# Altium schematic symbol library myLib.SchLib: 48 symbols
Pins are listed as number, name and electrical type; pins without a type are passive.

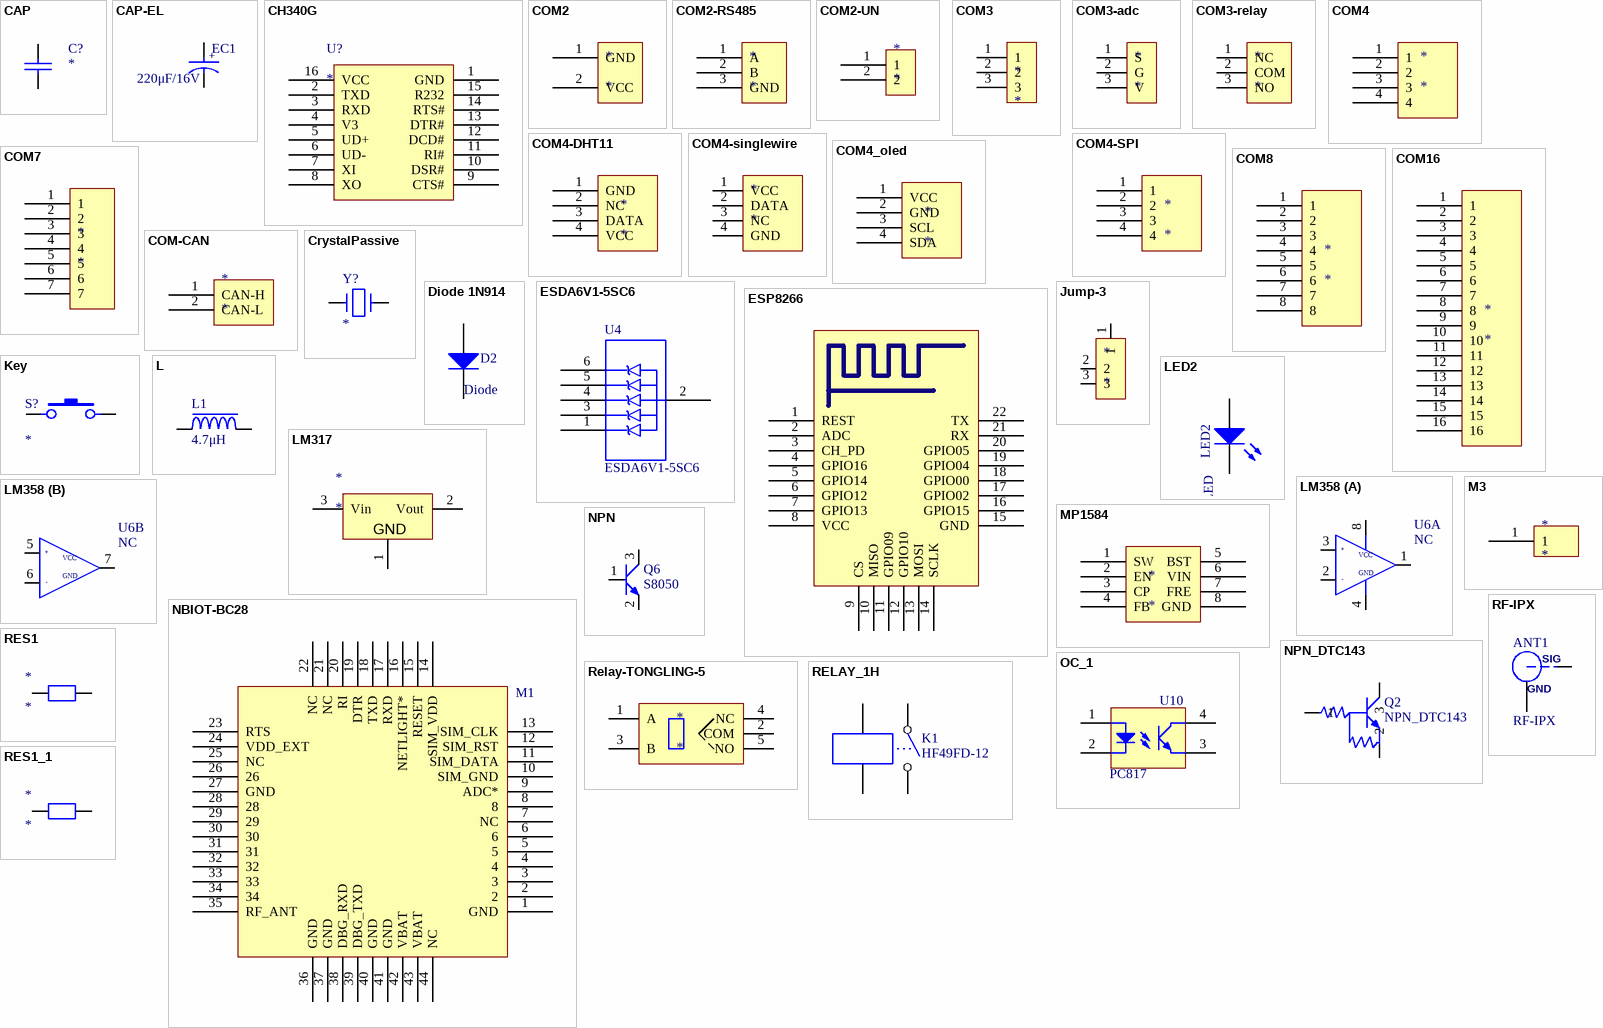
[diagram p0: symbols CAP to RF-IPX]

## CAP
designator C?
Capacitor
footprint 0603C
footprint 0805C
footprint 1206C
footprint 1210C
footprint 0201C
footprint 0402C
pins: 1, 2

## CAP-EL
designator EC1, comment 220μF/16V
footprint RB_6.3/7.7
pins: 1, 2
text: +

## CH340G
designator U?
footprint SOP16
footprint DIP16
pins: 1 GND, 2 TXD, 3 RXD, 4 V3, 5 UD+, 6 UD-, 7 XI, 8 XO, 9 CTS#, 10 DSR#, 11 RI#, 12 DCD#, 13 DTR#, 14 RTS#, 15 R232, 16 VCC

## COM2
designator *
pins: 1 GND, 2 VCC

## COM2-RS485
designator *
pins: 1 A, 2 B, 3 GND

## COM2-UN
designator *
pins: 1, 2

## COM3
designator *
pins: 1, 2, 3

## COM3-adc
designator *
pins: 1 S, 2 G, 3 V

## COM3-relay
designator *
pins: 1 NC, 2 COM, 3 NO

## COM4
designator *
pins: 1, 2, 3, 4

## COM4-DHT11
designator *
pins: 1 GND, 2 NC, 3 DATA, 4 VCC

## COM4-singlewire
designator *
pins: 1 VCC, 2 DATA, 3 NC, 4 GND

## COM4-SPI
designator *
pins: 1, 2, 3, 4

## COM4_oled
designator *
pins: 1 VCC, 2 GND, 3 SCL, 4 SDA

## COM7
designator *
pins: 1, 2, 3, 4, 5, 6, 7

## COM8
designator *
pins: 1, 2, 3, 4, 5, 6, 7, 8

## COM16
designator *
pins: 1, 2, 3, 4, 5, 6, 7, 8, 9, 10, 11, 12, 13, 14, 15, 16

## COM-CAN
designator *
pins: 1 CAN-H, 2 CAN-L

## CrystalPassive
designator Y?
footprint XTAL_DIP
footprint XTAL_PASTE
footprint XTAL_ROUND
footprint YYC-3215
footprint YYC-5032
pins: 1, 2

## Diode 1N914
designator D2, comment Diode
High Conductance Fast Diode; Published: 8-Jun-2000; LatestRevisionDate: 17-Jul-2002; LatestRevisionNote: Re-released for DXP Platform.; DatasheetVersion: 1997; PackageReference: DO-35; Publisher: Altium Limited; PackageDescription: Diode, Axial; Body 3.8 x 1.9 mm (LxDia. max), Lead Dia. 0.53 mm (max); Code_JEDEC: DO-204-AH; ComponentLink1Description: Manufacturer Link; ComponentLink1URL: http://www.fairchildsemi.com/; ComponentLink2Description: Datasheet; ComponentLink2URL: http://www.fairchildsemi.com/ds/1N%2F1N4448.pdf
footprint DO-35 (Diode, Axial; Body 3.8 x 1.9 mm (LxDia. max), Lead Dia. 0.53 mm (max))
simulation model 1N914 (DIODE)
signal-integrity model 1N914
pins: 1 A, 2 K

## ESDA6V1-5SC6
designator U4
footprint TSOT23-6
pins: 1, 2 6, 3, 4, 5, 6

## ESP8266
designator 控制单元  (value not drawn)
pins: 1 REST, 2 ADC, 3 CH_PD, 4 GPIO16, 5 GPIO14, 6 GPIO12, 7 GPIO13, 8 VCC, 9 CS, 10 MISO, 11 GPIO09, 12 GPIO10, 13 MOSI, 14 SCLK, 15 GND, 16 GPIO15, 17 GPIO02, 18 GPIO00, 19 GPIO04, 20 GPIO05, 21 RX, 22 TX

## Jump-3
designator *
pins: 1, 2, 3

## Key
designator S?
footprint KEY_PIECE
footprint KEY_DIP
footprint KEY_PASTE
footprint KEY/6x3x5
pins: 1, 2

## L
designator L1, comment 4.7μH
footprint LGA/7x7x5 (电感)
footprint LGA/.1.2 (间距100mil 直径200mil)
footprint LGA/.2.4
footprint LGA/12X12X10
pins: 1, 2

## LED2
designator LED2, comment LED
Typical RED, GREEN, YELLOW, AMBER GaAs LED; Published: 8-Jun-2000; LatestRevisionDate: 17-Jul-2002; LatestRevisionNote: Re-released for DXP Platform.; PackageVersion: Feb-2002; PackageReference: 3.2X1.6X1.1; Publisher: Altium Limited; PackageDescription: SM LED; 2 Flat Leads
footprint 3.2X1.6X1.1 (SMT LED; 2 Flat Leads)
simulation model LED2 (Diode)
pins: 1 A, 2 K

## LM317
designator *
footprint TO252
footprint TO263-3
footprint SOT-223
pins: 1 ADJ, 2 Vout, 3 Vin
text: GND

## LM358
designator U6, comment NC
footprint DIP8
footprint SOP8
part A pins: 1, 2, 3, 4, 8
part B pins: 5, 6, 7
part A text: ＋; VCC; GND; －
part B text: ＋; VCC; GND; －

## M3
designator *
pins: 1

## MP1584
designator *
pins: 1 SW, 2 EN, 3 CP, 4 FB, 5 BST, 6 VIN, 7 FRE, 8 GND

## NBIOT-BC28
designator M1  (value not drawn)
BC28
footprint NB-IOT-BC28
pins: 1 GND, 2, 3, 4, 5, 6, 7 NC, 8, 9 ADC*, 10 SIM_GND, 11 SIM_DATA, 12 SIM_RST, 13 SIM_CLK, 14 SIM_VDD, 15 RESET, 16 NETLIGHT*, 17 RXD, 18 TXD, 19 DTR, 20 RI, 21 NC, 22 NC, 23 RTS, 24 VDD_EXT, 25 NC, 26, 27 GND, 28, 29, 30, 31, 32, 33, 34, 35 RF_ANT, 36 GND, 37 GND, 38 DBG_RXD, 39 DBG_TXD, 40 GND, 41 GND, 42 VBAT, 43 VBAT, 44 NC

## NPN
designator Q6, comment S8050
NPN Transistor
footprint SOT23
footprint TO3
footprint TO92
footprint TO126
footprint TO220
footprint TO220_H
footprint TO252
pins: 1, 2, 3

## NPN_DTC143
designator Q2
footprint SOT-523
pins: 1, 2, 3

## OC_1
designator U10, comment PC817
footprint DIP4
footprint SOP4
pins: 1, 2 1, 3, 4

## Relay-TONGLING-5
designator *
pins: 1 A, 2 COM, 3 B, 4 NC, 5 NO

## RELAY_1H
designator K1, comment HF49FD-12
1组常开触点
footprint RELAY_PLC
pins: 1, 2, 3, 4

## RES1
designator *
footprint AXIAL0.4
footprint AXIAL0.5
footprint AXIAL0.6
footprint AXIAL0.7
footprint AXIAL0.8
footprint AXIAL.RD
pins: 1, 2

## RES1_1
designator *
footprint AXIAL0.4
footprint AXIAL0.5
footprint AXIAL0.6
footprint AXIAL0.7
footprint AXIAL0.8
footprint AXIAL.RD
pins: 1, 2

## RF-IPX
designator ANT1
IPX
footprint RF-IPX
pins: 1, 2
text: SIG; GND

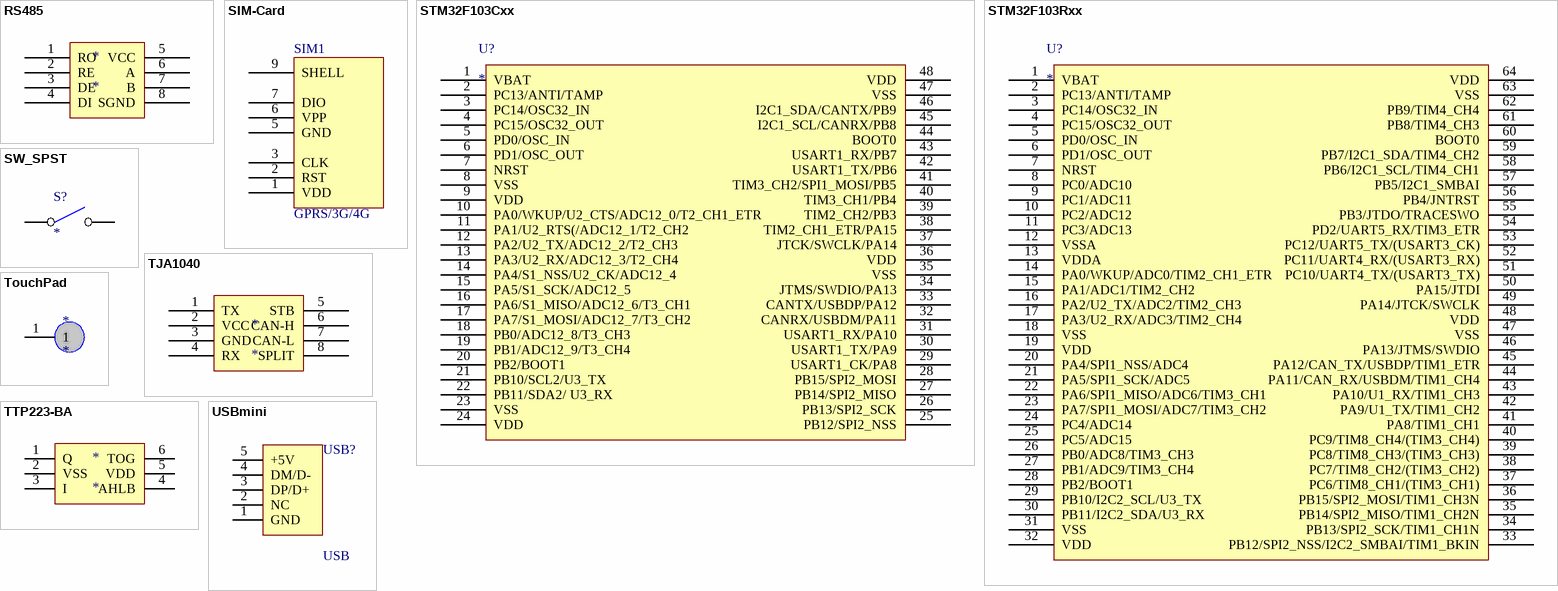
[diagram p1: symbols RS485 to USBmini]

## RS485
designator *
pins: 1 RO, 2 RE, 3 DE, 4 DI, 5 VCC, 6 A, 7 B, 8 SGND

## SIM-Card
designator SIM1, comment GPRS/3G/4G
footprint SIM-Micro-01
footprint SIM-Nano-01
pins: 1 VDD, 2 RST, 3 CLK, 5 GND, 6 VPP, 7 DIO, 9 SHELL

## STM32F103Cxx
designator U?
footprint TQFP48/0.5
pins: 1 VBAT, 2 PC13/ANTI/TAMP, 3 PC14/OSC32_IN, 4 PC15/OSC32_OUT, 5 PD0/OSC_IN, 6 PD1/OSC_OUT, 7 NRST, 8 VSS, 9 VDD, 10 PA0/WKUP/U2_CTS/ADC12_0/T2_CH1_ETR, 11 PA1/U2_RTS(/ADC12_1/T2_CH2, 12 PA2/U2_TX/ADC12_2/T2_CH3, 13 PA3/U2_RX/ADC12_3/T2_CH4, 14 PA4/S1_NSS/U2_CK/ADC12_4, 15 PA5/S1_SCK/ADC12_5, 16 PA6/S1_MISO/ADC12_6/T3_CH1, 17 PA7/S1_MOSI/ADC12_7/T3_CH2, 18 PB0/ADC12_8/T3_CH3, 19 PB1/ADC12_9/T3_CH4, 20 PB2/BOOT1, 21 PB10/SCL2/U3_TX, 22 PB11/SDA2/ U3_RX, 23 VSS, 24 VDD, 25 PB12/SPI2_NSS, 26 PB13/SPI2_SCK, 27 PB14/SPI2_MISO, 28 PB15/SPI2_MOSI, 29 USART1_CK/PA8, 30 USART1_TX/PA9, 31 USART1_RX/PA10, 32 CANRX/USBDM/PA11, 33 CANTX/USBDP/PA12, 34 JTMS/SWDIO/PA13, 35 VSS, 36 VDD, 37 JTCK/SWCLK/PA14, 38 TIM2_CH1_ETR/PA15, 39 TIM2_CH2/PB3, 40 TIM3_CH1/PB4, 41 TIM3_CH2/SPI1_MOSI/PB5, 42 USART1_TX/PB6, 43 USART1_RX/PB7, 44 BOOT0, 45 I2C1_SCL/CANRX/PB8, 46 I2C1_SDA/CANTX/PB9, 47 VSS, 48 VDD

## STM32F103Rxx
designator U?
footprint TQFP64/0.5
pins: 1 VBAT, 2 PC13/ANTI/TAMP, 3 PC14/OSC32_IN, 4 PC15/OSC32_OUT, 5 PD0/OSC_IN, 6 PD1/OSC_OUT, 7 NRST, 8 PC0/ADC10, 9 PC1/ADC11, 10 PC2/ADC12, 11 PC3/ADC13, 12 VSSA, 13 VDDA, 14 PA0/WKUP/ADC0/TIM2_CH1_ETR, 15 PA1/ADC1/TIM2_CH2, 16 PA2/U2_TX/ADC2/TIM2_CH3, 17 PA3/U2_RX/ADC3/TIM2_CH4, 18 VSS, 19 VDD, 20 PA4/SPI1_NSS/ADC4, 21 PA5/SPI1_SCK/ADC5, 22 PA6/SPI1_MISO/ADC6/TIM3_CH1, 23 PA7/SPI1_MOSI/ADC7/TIM3_CH2, 24 PC4/ADC14, 25 PC5/ADC15, 26 PB0/ADC8/TIM3_CH3, 27 PB1/ADC9/TIM3_CH4, 28 PB2/BOOT1, 29 PB10/I2C2_SCL/U3_TX, 30 PB11/I2C2_SDA/U3_RX, 31 VSS, 32 VDD, 33 PB12/SPI2_NSS/I2C2_SMBAI/TIM1_BKIN, 34 PB13/SPI2_SCK/TIM1_CH1N, 35 PB14/SPI2_MISO/TIM1_CH2N, 36 PB15/SPI2_MOSI/TIM1_CH3N, 37 PC6/TIM8_CH1/(TIM3_CH1), 38 PC7/TIM8_CH2/(TIM3_CH2), 39 PC8/TIM8_CH3/(TIM3_CH3), 40 PC9/TIM8_CH4/(TIM3_CH4), 41 PA8/TIM1_CH1, 42 PA9/U1_TX/TIM1_CH2, 43 PA10/U1_RX/TIM1_CH3, 44 PA11/CAN_RX/USBDM/TIM1_CH4, 45 PA12/CAN_TX/USBDP/TIM1_ETR, 46 PA13/JTMS/SWDIO, 47 VSS, 48 VDD, 49 PA14/JTCK/SWCLK, 50 PA15/JTDI, 51 PC10/UART4_TX/(USART3_TX), 52 PC11/UART4_RX/(USART3_RX), 53 PC12/UART5_TX/(USART3_CK), 54 PD2/UART5_RX/TIM3_ETR, 55 PB3/JTDO/TRACESWO, 56 PB4/JNTRST, 57 PB5/I2C1_SMBAI, 58 PB6/I2C1_SCL/TIM4_CH1, 59 PB7/I2C1_SDA/TIM4_CH2, 60 BOOT0, 61 PB8/TIM4_CH3, 62 PB9/TIM4_CH4, 63 VSS, 64 VDD

## SW_SPST
designator S?
footprint KEY/6x3x5
pins: 1 COMMON, 2 NO

## TJA1040
designator *
pins: 1 TX, 2 VCC, 3 GND, 4 RX, 5 STB, 6 CAN-H, 7 CAN-L, 8 SPLIT

## TouchPad
designator *
pins: 1

## TTP223-BA
designator *
pins: 1 Q, 2 VSS, 3 I, 4 AHLB, 5 VDD, 6 TOG

## USBmini
designator USB?, comment USB
footprint USB/min
footprint USB/Mic-5SB
pins: 1 GND, 2 NC, 3 DP/D+, 4 DM/D-, 5 +5V